# EAGLE library part TS5A3160 (library IC & Transistor)
1-Ω SPDT Analog Switch
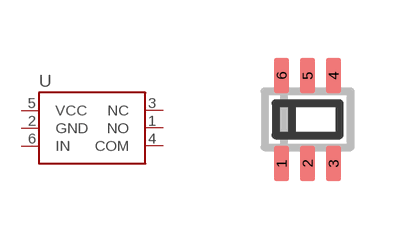
[diagram p74: symbol with the pads of SC-70-6; footprint SC-70-6]

Designator prefix U

## TS5A3160 (DESC: 1-Ω SPDT Analog Switch; MF: Texas Instruments; MPN: TS5A3160)  [SC-70-6]
1  NO
2  GND
3  NC
4  COM
5  VCC
6  IN

## Footprint SC-70-6 (pad centres in mm)
SC-70-6 SC-88 SOT363
smd 0.38 x 0.9: 1 -0.65,-1.1; 2 0,-1.1; 3 0.65,-1.1; 4 0.65,1.1; 5 0,1.1; 6 -0.65,1.1